# Altium schematic symbol library pre_INDUCTOR.SchLib: 9 symbols
Pins are listed as number, name and electrical type; pins without a type are passive.

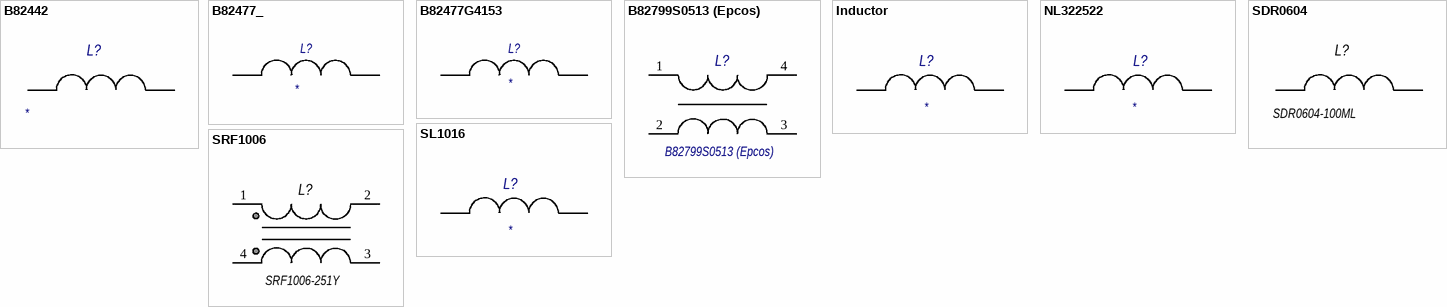
[diagram p0: symbols B82442 to SRF1006]

## B82442
designator L?
B82442; Value: *
footprint SIMID2220H
pins: 1, 2

## B82477_
designator L?
Value: *; Type: *
footprint B82477G4153
pins: 1, 2

## B82477G4153
designator L?
Value: *
footprint B82477G4153
pins: 1, 2

## B82799S0513 (Epcos)
designator L?  value B82799S0513 (Epcos)  (hidden comment: *)
footprint B82799S0513 (Epcos) (Inductor, 4-Leads)
pins: 1, 2, 3, 4

## Inductor
designator L?
Value: *
footprint L0603 (Chip Inductor, 2-Leads, Body 1,60x0,80mm, IPC Medium Density)
footprint L0805 (BF-SB201209 2.0x1.25x0.90)
pins: 1, 2

## NL322522
designator L?
Value: *
footprint 1210
pins: 1, 2

## SDR0604
designator L?  value SDR0604-100ML  (hidden comment: *)
SDR0604
footprint SDR0604
pins: 1, 2

## SL1016
designator L?
Value: *
footprint SL1016
pins: 1, 2

## SRF1006
designator L?  value SRF1006-251Y  (hidden comment: *)
footprint SRF1006 (Inductor, 4-Leads)
pins: 1, 2, 3, 4